# Altium schematic symbol library Power_Supervisor.SchLib: 91 symbols
Pins are listed as number, name and electrical type; pins without a type are passive.

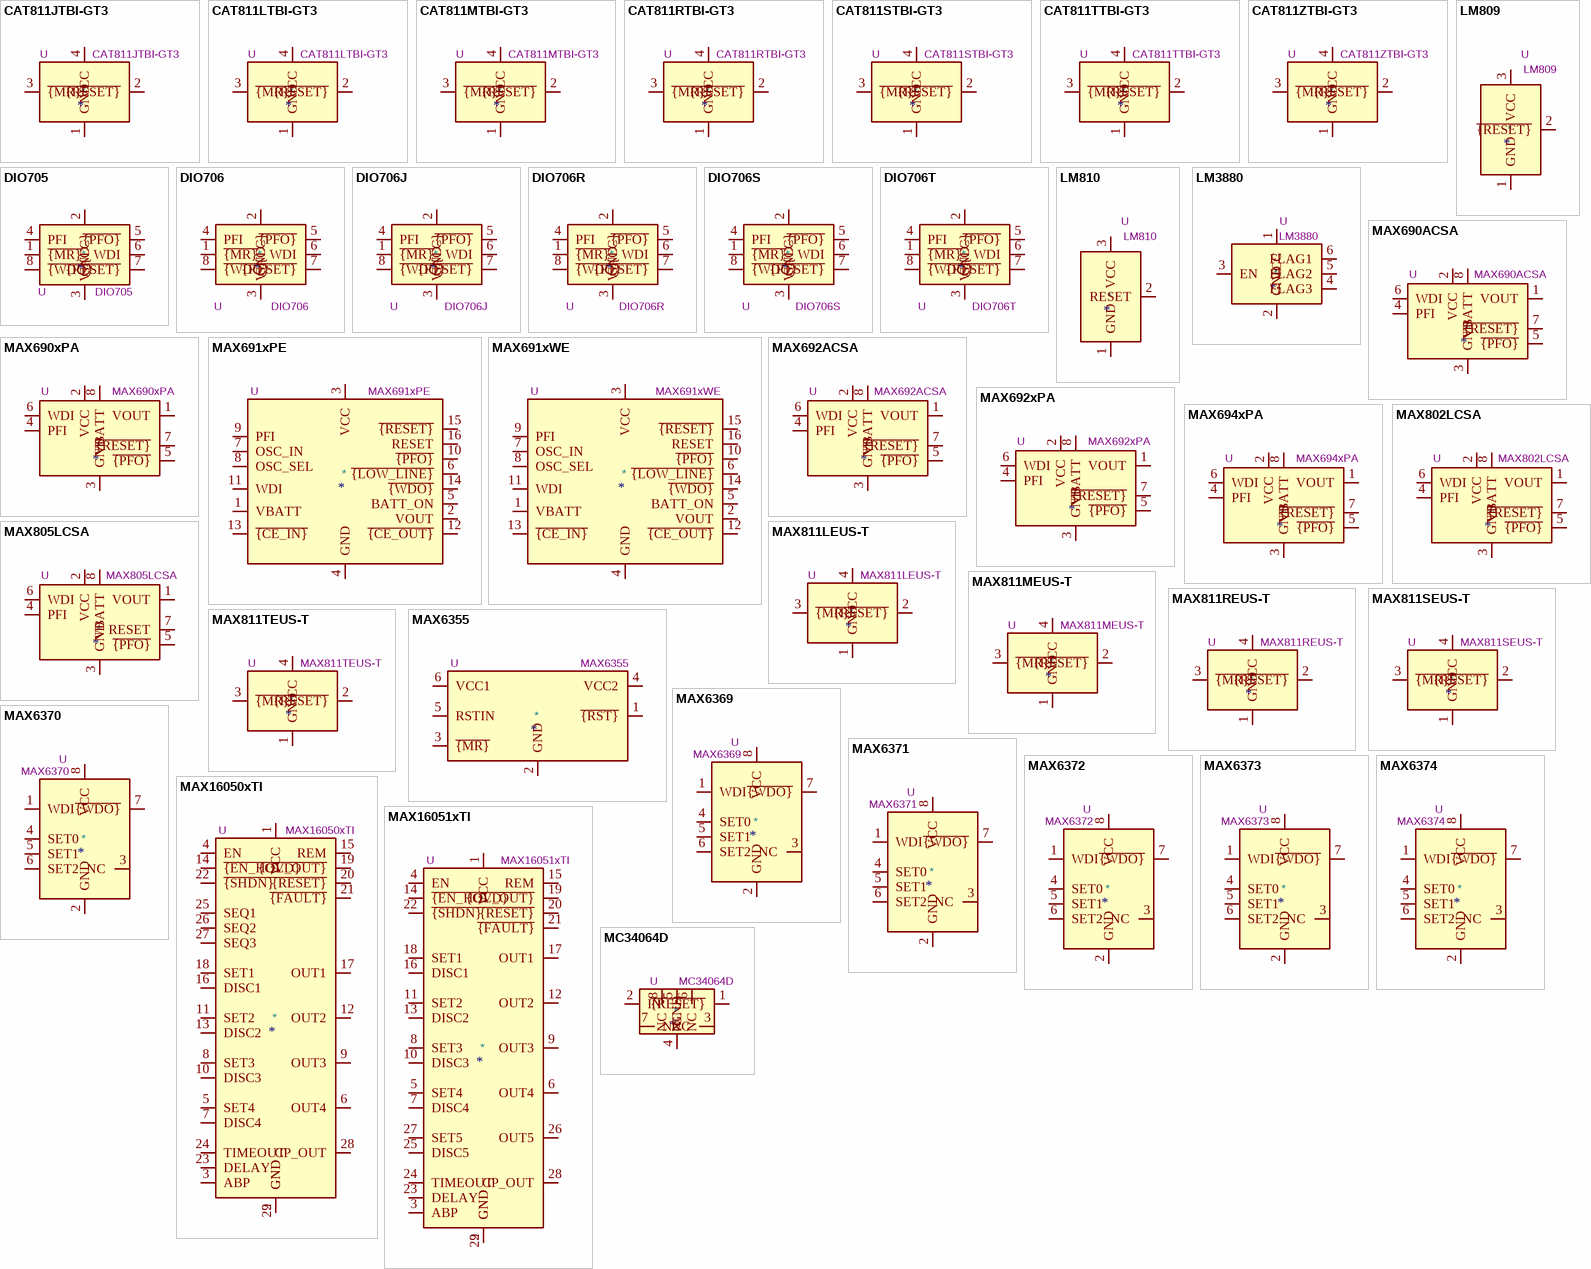
[diagram p0: symbols CAT811JTBI-GT3 to MC34064D]

## CAT811JTBI-GT3
designator *  value CAT811JTBI-GT3  Reference: U
Power supply supervisor, Manual reset, Threshold 4.00V, SOT-143; ki_keywords: Supervisor Reset; ki_fp_filters: SOT*143*; Footprint: Package_TO_SOT_SMD:SOT-143; Datasheet: http://www.onsemi.com/pub/Collateral/CAT811-D.PDF; Description_: Power supply supervisor, Manual reset, Threshold 4.00V, SOT-143
pins: 1 GND, 2 ~{{RESET}}, 3 ~{{MR}}, 4 VCC

## CAT811LTBI-GT3
designator *  value CAT811LTBI-GT3  Reference: U
Power supply supervisor, Manual reset, Threshold 4.63V, SOT-143; ki_keywords: Supervisor Reset; ki_fp_filters: SOT*143*; Footprint: Package_TO_SOT_SMD:SOT-143; Datasheet: http://www.onsemi.com/pub/Collateral/CAT811-D.PDF; Description_: Power supply supervisor, Manual reset, Threshold 4.63V, SOT-143
pins: 1 GND, 2 ~{{RESET}}, 3 ~{{MR}}, 4 VCC

## CAT811MTBI-GT3
designator *  value CAT811MTBI-GT3  Reference: U
Power supply supervisor, Manual reset, Threshold 4.38V, SOT-143; ki_keywords: Supervisor Reset; ki_fp_filters: SOT*143*; Footprint: Package_TO_SOT_SMD:SOT-143; Datasheet: http://www.onsemi.com/pub/Collateral/CAT811-D.PDF; Description_: Power supply supervisor, Manual reset, Threshold 4.38V, SOT-143
pins: 1 GND, 2 ~{{RESET}}, 3 ~{{MR}}, 4 VCC

## CAT811RTBI-GT3
designator *  value CAT811RTBI-GT3  Reference: U
Power supply supervisor, Manual reset, Threshold 2.63V, SOT-143; ki_keywords: Supervisor Reset; ki_fp_filters: SOT*143*; Footprint: Package_TO_SOT_SMD:SOT-143; Datasheet: http://www.onsemi.com/pub/Collateral/CAT811-D.PDF; Description_: Power supply supervisor, Manual reset, Threshold 2.63V, SOT-143
pins: 1 GND, 2 ~{{RESET}}, 3 ~{{MR}}, 4 VCC

## CAT811STBI-GT3
designator *  value CAT811STBI-GT3  Reference: U
Power supply supervisor, Manual reset, Threshold 2.93V, SOT-143; ki_keywords: Supervisor Reset; ki_fp_filters: SOT*143*; Footprint: Package_TO_SOT_SMD:SOT-143; Datasheet: http://www.onsemi.com/pub/Collateral/CAT811-D.PDF; Description_: Power supply supervisor, Manual reset, Threshold 2.93V, SOT-143
pins: 1 GND, 2 ~{{RESET}}, 3 ~{{MR}}, 4 VCC

## CAT811TTBI-GT3
designator *  value CAT811TTBI-GT3  Reference: U
Power supply supervisor, Manual reset, Threshold 3.08V, SOT-143; ki_keywords: Supervisor Reset; ki_fp_filters: SOT*143*; Footprint: Package_TO_SOT_SMD:SOT-143; Datasheet: http://www.onsemi.com/pub/Collateral/CAT811-D.PDF; Description_: Power supply supervisor, Manual reset, Threshold 3.08V, SOT-143
pins: 1 GND, 2 ~{{RESET}}, 3 ~{{MR}}, 4 VCC

## CAT811ZTBI-GT3
designator *  value CAT811ZTBI-GT3  Reference: U
Power supply supervisor, Manual reset, Threshold 2.32V, SOT-143; ki_keywords: Supervisor Reset; ki_fp_filters: SOT*143*; Footprint: Package_TO_SOT_SMD:SOT-143; Datasheet: http://www.onsemi.com/pub/Collateral/CAT811-D.PDF; Description_: Power supply supervisor, Manual reset, Threshold 2.32V, SOT-143
pins: 1 GND, 2 ~{{RESET}}, 3 ~{{MR}}, 4 VCC

## DIO705
designator *  value DIO705  Reference: U
Microprocessor Reset (active-low) circuit with manual reset and watchdog, 4.65Vnom threshold, SO-8; ki_keywords: supervisor wdg; ki_fp_filters: SO*3.9x4.9mm*P1.27mm*; Footprint: Package_SO:SOIC-8_3.9x4.9mm_P1.27mm; Datasheet: https://dioo.com/uploads/product/20210528/dae33bc3e6c4b6e07ca730d55ecc4c48.pdf; Description_: Microprocessor Reset (active-low) circuit with manual reset and watchdog, 4.65Vnom threshold, SO-8
pins: 1 ~{{MR}}, 2 V_{CC}, 3 GND, 4 PFI, 5 ~{{PFO}}, 6 WDI, 7 ~{{RESET}}, 8 ~{{WDO}}

## DIO706
designator *  value DIO706  Reference: U
Microprocessor Reset (active-low) circuit with manual reset and watchdog, 4.4Vnom threshold, SO-8; ki_keywords: supervisor wdg; ki_fp_filters: SO*3.9x4.9mm*P1.27mm*; Footprint: Package_SO:SOIC-8_3.9x4.9mm_P1.27mm; Datasheet: https://dioo.com/uploads/product/20210528/dae33bc3e6c4b6e07ca730d55ecc4c48.pdf; Description_: Microprocessor Reset (active-low) circuit with manual reset and watchdog, 4.4Vnom threshold, SO-8
pins: 1 ~{{MR}}, 2 V_{CC}, 3 GND, 4 PFI, 5 ~{{PFO}}, 6 WDI, 7 ~{{RESET}}, 8 ~{{WDO}}

## DIO706J
designator *  value DIO706J  Reference: U
Microprocessor Reset (active-low) circuit with manual reset and watchdog, 4.0Vnom threshold, SO-8; ki_keywords: supervisor wdg; ki_fp_filters: SO*3.9x4.9mm*P1.27mm*; Footprint: Package_SO:SOIC-8_3.9x4.9mm_P1.27mm; Datasheet: https://dioo.com/uploads/product/20210528/dae33bc3e6c4b6e07ca730d55ecc4c48.pdf; Description_: Microprocessor Reset (active-low) circuit with manual reset and watchdog, 4.0Vnom threshold, SO-8
pins: 1 ~{{MR}}, 2 V_{CC}, 3 GND, 4 PFI, 5 ~{{PFO}}, 6 WDI, 7 ~{{RESET}}, 8 ~{{WDO}}

## DIO706R
designator *  value DIO706R  Reference: U
Microprocessor Reset (active-low) circuit with manual reset and watchdog, 2.63Vnom threshold, SO-8; ki_keywords: supervisor wdg; ki_fp_filters: SO*3.9x4.9mm*P1.27mm*; Footprint: Package_SO:SOIC-8_3.9x4.9mm_P1.27mm; Datasheet: https://dioo.com/uploads/product/20210528/dae33bc3e6c4b6e07ca730d55ecc4c48.pdf; Description_: Microprocessor Reset (active-low) circuit with manual reset and watchdog, 2.63Vnom threshold, SO-8
pins: 1 ~{{MR}}, 2 V_{CC}, 3 GND, 4 PFI, 5 ~{{PFO}}, 6 WDI, 7 ~{{RESET}}, 8 ~{{WDO}}

## DIO706S
designator *  value DIO706S  Reference: U
Microprocessor Reset (active-low) circuit with manual reset and watchdog, 2.93Vnom threshold, SO-8; ki_keywords: supervisor wdg; ki_fp_filters: SO*3.9x4.9mm*P1.27mm*; Footprint: Package_SO:SOIC-8_3.9x4.9mm_P1.27mm; Datasheet: https://dioo.com/uploads/product/20210528/dae33bc3e6c4b6e07ca730d55ecc4c48.pdf; Description_: Microprocessor Reset (active-low) circuit with manual reset and watchdog, 2.93Vnom threshold, SO-8
pins: 1 ~{{MR}}, 2 V_{CC}, 3 GND, 4 PFI, 5 ~{{PFO}}, 6 WDI, 7 ~{{RESET}}, 8 ~{{WDO}}

## DIO706T
designator *  value DIO706T  Reference: U
Microprocessor Reset (active-low) circuit with manual reset and watchdog, 3.08Vnom threshold, SO-8; ki_keywords: supervisor wdg; ki_fp_filters: SO*3.9x4.9mm*P1.27mm*; Footprint: Package_SO:SOIC-8_3.9x4.9mm_P1.27mm; Datasheet: https://dioo.com/uploads/product/20210528/dae33bc3e6c4b6e07ca730d55ecc4c48.pdf; Description_: Microprocessor Reset (active-low) circuit with manual reset and watchdog, 3.08Vnom threshold, SO-8
pins: 1 ~{{MR}}, 2 V_{CC}, 3 GND, 4 PFI, 5 ~{{PFO}}, 6 WDI, 7 ~{{RESET}}, 8 ~{{WDO}}

## LM809
designator *  value LM809  Reference: U
Microprocessor Reset (active-low) Circuit, SOT-23; ki_keywords: reset supervisor; ki_fp_filters: SOT?23*; Footprint: Package_TO_SOT_SMD:SOT-23; Datasheet: http://www.ti.com/lit/ds/symlink/lm809.pdf; Description_: Microprocessor Reset (active-low) Circuit, SOT-23
pins: 1 GND, 2 ~{{RESET}}, 3 VCC

## LM810
designator *  value LM810  Reference: U
Microprocessor Reset (active-high) Circuit, SOT-23; ki_keywords: reset supervisor; ki_fp_filters: SOT?23*; Footprint: Package_TO_SOT_SMD:SOT-23; Datasheet: http://www.ti.com/lit/ds/symlink/lm809.pdf; Description_: Microprocessor Reset (active-high) Circuit, SOT-23
pins: 1 GND, 2 RESET, 3 VCC

## LM3880
designator *  value LM3880  Reference: U
Simple Power Sequencer, SOT-23-6; ki_fp_filters: SOT?23*; Footprint: Package_TO_SOT_SMD:SOT-23-6; Datasheet: http://www.ti.com/lit/ds/symlink/lm3880.pdf; Description_: Simple Power Sequencer, SOT-23-6; ki_keywords: Power Sequencer
pins: 1 VCC, 2 GND, 3 EN, 4 FLAG3, 5 FLAG2, 6 FLAG1

## MAX690ACSA
designator *  value MAX690ACSA  Reference: U
Microprocessor Supervisory Circuit, Battery-Backup Power Switching, Power-Fail Comparator, VCC / VBATT 1.0...5.5V, Reset Threshold 4.65V, Reset Pulse Width 200ms, Watchdog Timeout 1.60s, SOIC-8; ki_keywords: Supervisor wdg; ki_fp_filters: *SO*3.9*4.*P1.27mm*; Footprint: Package_SO:SOIC-8_3.9x4.9mm_P1.27mm; Datasheet: https://www.analog.com/media/en/technical-documentation/data-sheets/MAX690A-MAX805L.pdf; Description_: Microprocessor Supervisory Circuit, Battery-Backup Power Switching, Power-Fail Comparator, VCC / VBATT 1.0...5.5V, Reset Threshold 4.65V, Reset Pulse Width 200ms, Watchdog Timeout 1.60s, SOIC-8
pins: 1 VOUT, 2 VCC, 3 GND, 4 PFI, 5 ~{{PFO}}, 6 WDI, 7 ~{{RESET}}, 8 VBATT

## MAX690xPA
designator *  value MAX690xPA  Reference: U
Microprocessor Supervisory Circuit, Battery-Backup Power Switching, Power-Fail Comparator, VCC 4.75...5.5V, VBATT 2.0...4.25V, Reset Voltage Threshold 4.65V, Reset Timeout Delay 50ms, Watchdog Timeout 1.6s, DIP-8; ki_keywords: Supervisor wdg; ki_fp_filters: *DIP*W7.62mm*; Footprint: Package_DIP:DIP-8_W7.62mm; Datasheet: https://www.analog.com/media/en/technical-documentation/data-sheets/max690-max695.pdf; Description_: Microprocessor Supervisory Circuit, Battery-Backup Power Switching, Power-Fail Comparator, VCC 4.75...5.5V, VBATT 2.0...4.25V, Reset Voltage Threshold 4.65V, Reset Timeout Delay 50ms, Watchdog Timeout 1.6s, DIP-8
pins: 1 VOUT, 2 VCC, 3 GND, 4 PFI, 5 ~{{PFO}}, 6 WDI, 7 ~{{RESET}}, 8 VBATT

## MAX691xPE
designator *  value MAX691xPE  Reference: U
Microprocessor Supervisory Circuit, DIP-16; ki_keywords: Power Supervisor; ki_fp_filters: DIP*W7.62mm*; Footprint: Package_DIP:DIP-16_W7.62mm; Datasheet: https://datasheets.maximintegrated.com/en/ds/MAX690-MAX695.pdf; Description_: Microprocessor Supervisory Circuit, DIP-16
pins: 1 VBATT, 2 VOUT, 3 VCC, 4 GND, 5 BATT_ON, 6 ~{{LOW_LINE}}, 7 OSC_IN, 8 OSC_SEL, 9 PFI, 10 ~{{PFO}}, 11 WDI, 12 ~{{CE_OUT}}, 13 ~{{CE_IN}}, 14 ~{{WDO}}, 15 ~{{RESET}}, 16 RESET

## MAX691xWE
designator *  value MAX691xWE  Reference: U
Microprocessor Supervisory Circuit, SOIC-16; ki_keywords: Power Supervisor; ki_fp_filters: SOIC*7.5x10.3mm*P1.27mm*; Footprint: Package_SO:SOIC-16W_7.5x10.3mm_P1.27mm; Datasheet: https://datasheets.maximintegrated.com/en/ds/MAX690-MAX695.pdf; Description_: Microprocessor Supervisory Circuit, SOIC-16
pins: 1 VBATT, 2 VOUT, 3 VCC, 4 GND, 5 BATT_ON, 6 ~{{LOW_LINE}}, 7 OSC_IN, 8 OSC_SEL, 9 PFI, 10 ~{{PFO}}, 11 WDI, 12 ~{{CE_OUT}}, 13 ~{{CE_IN}}, 14 ~{{WDO}}, 15 ~{{RESET}}, 16 RESET

## MAX692ACSA
designator *  value MAX692ACSA  Reference: U
Microprocessor Supervisory Circuit, Battery-Backup Power Switching, Power-Fail Comparator, VCC / VBATT 1.0...5.5V, Reset Threshold 4.40V, Reset Pulse Width 200ms, Watchdog Timeout 1.60s, SOIC-8; ki_keywords: Supervisor wdg; ki_fp_filters: *SO*3.9*4.*P1.27mm*; Footprint: Package_SO:SOIC-8_3.9x4.9mm_P1.27mm; Datasheet: https://www.analog.com/media/en/technical-documentation/data-sheets/MAX690A-MAX805L.pdf; Description_: Microprocessor Supervisory Circuit, Battery-Backup Power Switching, Power-Fail Comparator, VCC / VBATT 1.0...5.5V, Reset Threshold 4.40V, Reset Pulse Width 200ms, Watchdog Timeout 1.60s, SOIC-8
pins: 1 VOUT, 2 VCC, 3 GND, 4 PFI, 5 ~{{PFO}}, 6 WDI, 7 ~{{RESET}}, 8 VBATT

## MAX692xPA
designator *  value MAX692xPA  Reference: U
Microprocessor Supervisory Circuit, Battery-Backup Power Switching, Power-Fail Comparator, VCC 4.5...5.5V, VBATT 2.0...4.0V, Reset Voltage Threshold 4.4V, Reset Timeout Delay 50ms, Watchdog Timeout 1.6s, DIP-8; ki_keywords: Supervisor wdg; ki_fp_filters: *DIP*W7.62mm*; Footprint: Package_DIP:DIP-8_W7.62mm; Datasheet: https://www.analog.com/media/en/technical-documentation/data-sheets/max690-max695.pdf; Description_: Microprocessor Supervisory Circuit, Battery-Backup Power Switching, Power-Fail Comparator, VCC 4.5...5.5V, VBATT 2.0...4.0V, Reset Voltage Threshold 4.4V, Reset Timeout Delay 50ms, Watchdog Timeout 1.6s, DIP-8
pins: 1 VOUT, 2 VCC, 3 GND, 4 PFI, 5 ~{{PFO}}, 6 WDI, 7 ~{{RESET}}, 8 VBATT

## MAX694xPA
designator *  value MAX694xPA  Reference: U
Microprocessor Supervisory Circuit, Battery-Backup Power Switching, Power-Fail Comparator, VCC 4.75...5.5V, VBATT 2.0...4.25V, Reset Voltage Threshold 4.65V, Reset Timeout Delay 200ms, Watchdog Timeout 1.6s, DIP-8; ki_keywords: Supervisor wdg; ki_fp_filters: *DIP*W7.62mm*; Footprint: Package_DIP:DIP-8_W7.62mm; Datasheet: https://www.analog.com/media/en/technical-documentation/data-sheets/max690-max695.pdf; Description_: Microprocessor Supervisory Circuit, Battery-Backup Power Switching, Power-Fail Comparator, VCC 4.75...5.5V, VBATT 2.0...4.25V, Reset Voltage Threshold 4.65V, Reset Timeout Delay 200ms, Watchdog Timeout 1.6s, DIP-8
pins: 1 VOUT, 2 VCC, 3 GND, 4 PFI, 5 ~{{PFO}}, 6 WDI, 7 ~{{RESET}}, 8 VBATT

## MAX802LCSA
designator *  value MAX802LCSA  Reference: U
Microprocessor Supervisory Circuit, Battery-Backup Power Switching, Power-Fail Comparator accuracy ±2%, VCC / VBATT 1.0...5.5V, Reset Threshold 4.65V, Reset Pulse Width 200ms, Watchdog Timeout 1.60s, SOIC-8; ki_keywords: Supervisor wdg; ki_fp_filters: *SO*3.9*4.*P1.27mm*; Footprint: Package_SO:SOIC-8_3.9x4.9mm_P1.27mm; Datasheet: https://www.analog.com/media/en/technical-documentation/data-sheets/MAX690A-MAX805L.pdf; Description_: Microprocessor Supervisory Circuit, Battery-Backup Power Switching, Power-Fail Comparator accuracy ±2%, VCC / VBATT 1.0...5.5V, Reset Threshold 4.65V, Reset Pulse Width 200ms, Watchdog Timeout 1.60s, SOIC-8
pins: 1 VOUT, 2 VCC, 3 GND, 4 PFI, 5 ~{{PFO}}, 6 WDI, 7 ~{{RESET}}, 8 VBATT

## MAX805LCSA
designator *  value MAX805LCSA  Reference: U
Microprocessor Supervisory Circuit, Battery-Backup Power Switching, Power-Fail Comparator, VCC / VBATT 1.1...5.5V, Reset Threshold 4.65V, Reset Pulse Width 200ms, Watchdog Timeout 1.60s, Reset active-high, SOIC-8; ki_keywords: Supervisor wdg; ki_fp_filters: *SO*3.9*4.*P1.27mm*; Footprint: Package_SO:SOIC-8_3.9x4.9mm_P1.27mm; Datasheet: https://www.analog.com/media/en/technical-documentation/data-sheets/MAX690A-MAX805L.pdf; Description_: Microprocessor Supervisory Circuit, Battery-Backup Power Switching, Power-Fail Comparator, VCC / VBATT 1.1...5.5V, Reset Threshold 4.65V, Reset Pulse Width 200ms, Watchdog Timeout 1.60s, Reset active-high, SOIC-8
pins: 1 VOUT, 2 VCC, 3 GND, 4 PFI, 5 ~{{PFO}}, 6 WDI, 7 RESET, 8 VBATT

## MAX811LEUS-T
designator *  value MAX811LEUS-T  Reference: U
Power supply supervisor, Manual reset, Threshold 4.63V, SOT-143; ki_keywords: Supervisor Reset; ki_fp_filters: SOT*143*; Footprint: Package_TO_SOT_SMD:SOT-143; Datasheet: https://datasheets.maximintegrated.com/en/ds/MAX811-MAX812.pdf; Description_: Power supply supervisor, Manual reset, Threshold 4.63V, SOT-143
pins: 1 GND, 2 ~{{RESET}}, 3 ~{{MR}}, 4 VCC

## MAX811MEUS-T
designator *  value MAX811MEUS-T  Reference: U
Power supply supervisor, Manual reset, Threshold 4.38V, SOT-143; ki_keywords: Supervisor Reset; ki_fp_filters: SOT*143*; Footprint: Package_TO_SOT_SMD:SOT-143; Datasheet: https://datasheets.maximintegrated.com/en/ds/MAX811-MAX812.pdf; Description_: Power supply supervisor, Manual reset, Threshold 4.38V, SOT-143
pins: 1 GND, 2 ~{{RESET}}, 3 ~{{MR}}, 4 VCC

## MAX811REUS-T
designator *  value MAX811REUS-T  Reference: U
Power supply supervisor, Manual reset, Threshold 2.63V, SOT-143; ki_keywords: Supervisor Reset; ki_fp_filters: SOT*143*; Footprint: Package_TO_SOT_SMD:SOT-143; Datasheet: https://datasheets.maximintegrated.com/en/ds/MAX811-MAX812.pdf; Description_: Power supply supervisor, Manual reset, Threshold 2.63V, SOT-143
pins: 1 GND, 2 ~{{RESET}}, 3 ~{{MR}}, 4 VCC

## MAX811SEUS-T
designator *  value MAX811SEUS-T  Reference: U
Power supply supervisor, Manual reset, Threshold 2.93V, SOT-143; ki_keywords: Supervisor Reset; ki_fp_filters: SOT*143*; Footprint: Package_TO_SOT_SMD:SOT-143; Datasheet: https://datasheets.maximintegrated.com/en/ds/MAX811-MAX812.pdf; Description_: Power supply supervisor, Manual reset, Threshold 2.93V, SOT-143
pins: 1 GND, 2 ~{{RESET}}, 3 ~{{MR}}, 4 VCC

## MAX811TEUS-T
designator *  value MAX811TEUS-T  Reference: U
Power supply supervisor, Manual reset, Threshold 3.08V, SOT-143; ki_keywords: Supervisor Reset; ki_fp_filters: SOT*143*; Footprint: Package_TO_SOT_SMD:SOT-143; Datasheet: https://datasheets.maximintegrated.com/en/ds/MAX811-MAX812.pdf; Description_: Power supply supervisor, Manual reset, Threshold 3.08V, SOT-143
pins: 1 GND, 2 ~{{RESET}}, 3 ~{{MR}}, 4 VCC

## MAX6355
designator *  value MAX6355  Reference: U
Dual Voltage μP Supervisory Circuits, SOT-23-6; ki_keywords: Power Supervisor; ki_fp_filters: SOT?23*; Footprint: Package_TO_SOT_SMD:SOT-23-6; Datasheet: https://datasheets.maximintegrated.com/en/ds/MAX6351-MAX6360.pdf; Description_: Dual Voltage μP Supervisory Circuits, SOT-23-6
pins: 1 ~{{RST}}, 2 GND, 3 ~{{MR}}, 4 VCC2, 5 RSTIN, 6 VCC1

## MAX6369
designator *  value MAX6369  Reference: U
Precision Pin-Selectable Watchdog Timer, 200us to 60s, SOT-23-8; ki_keywords: watchdog supervisor; ki_fp_filters: SOT?23*; Footprint: Package_TO_SOT_SMD:SOT-23-8; Datasheet: https://datasheets.maximintegrated.com/en/ds/MAX6369-MAX6374.pdf; Description_: Precision Pin-Selectable Watchdog Timer, 200us to 60s, SOT-23-8
pins: 1 WDI, 2 GND, 3 NC, 4 SET0, 5 SET1, 6 SET2, 7 ~{{WDO}}, 8 VCC

## MAX6370
designator *  value MAX6370  Reference: U
Precision Pin-Selectable Watchdog Timer, 200us to 60s, SOT-23-8; ki_keywords: watchdog supervisor; ki_fp_filters: SOT?23*; Footprint: Package_TO_SOT_SMD:SOT-23-8; Datasheet: https://datasheets.maximintegrated.com/en/ds/MAX6369-MAX6374.pdf; Description_: Precision Pin-Selectable Watchdog Timer, 200us to 60s, SOT-23-8
pins: 1 WDI, 2 GND, 3 NC, 4 SET0, 5 SET1, 6 SET2, 7 ~{{WDO}}, 8 VCC

## MAX6371
designator *  value MAX6371  Reference: U
Precision Pin-Selectable Watchdog Timer, 200us to 60s, SOT-23-8; ki_keywords: watchdog supervisor; ki_fp_filters: SOT?23*; Footprint: Package_TO_SOT_SMD:SOT-23-8; Datasheet: https://datasheets.maximintegrated.com/en/ds/MAX6369-MAX6374.pdf; Description_: Precision Pin-Selectable Watchdog Timer, 200us to 60s, SOT-23-8
pins: 1 WDI, 2 GND, 3 NC, 4 SET0, 5 SET1, 6 SET2, 7 ~{{WDO}}, 8 VCC

## MAX6372
designator *  value MAX6372  Reference: U
Precision Pin-Selectable Watchdog Timer, 200us to 60s, SOT-23-8; ki_keywords: watchdog supervisor; ki_fp_filters: SOT?23*; Footprint: Package_TO_SOT_SMD:SOT-23-8; Datasheet: https://datasheets.maximintegrated.com/en/ds/MAX6369-MAX6374.pdf; Description_: Precision Pin-Selectable Watchdog Timer, 200us to 60s, SOT-23-8
pins: 1 WDI, 2 GND, 3 NC, 4 SET0, 5 SET1, 6 SET2, 7 ~{{WDO}}, 8 VCC

## MAX6373
designator *  value MAX6373  Reference: U
Precision Pin-Selectable Watchdog Timer, 200us to 60s, SOT-23-8; ki_keywords: watchdog supervisor; ki_fp_filters: SOT?23*; Footprint: Package_TO_SOT_SMD:SOT-23-8; Datasheet: https://datasheets.maximintegrated.com/en/ds/MAX6369-MAX6374.pdf; Description_: Precision Pin-Selectable Watchdog Timer, 200us to 60s, SOT-23-8
pins: 1 WDI, 2 GND, 3 NC, 4 SET0, 5 SET1, 6 SET2, 7 ~{{WDO}}, 8 VCC

## MAX6374
designator *  value MAX6374  Reference: U
Precision Pin-Selectable Watchdog Timer, 200us to 60s, SOT-23-8; ki_keywords: watchdog supervisor; ki_fp_filters: SOT?23*; Footprint: Package_TO_SOT_SMD:SOT-23-8; Datasheet: https://datasheets.maximintegrated.com/en/ds/MAX6369-MAX6374.pdf; Description_: Precision Pin-Selectable Watchdog Timer, 200us to 60s, SOT-23-8
pins: 1 WDI, 2 GND, 3 NC, 4 SET0, 5 SET1, 6 SET2, 7 ~{{WDO}}, 8 VCC

## MAX16050xTI
designator *  value MAX16050xTI  Reference: U
5 Voltage Monitor/Sequencer with Reverse-Sequencing Capability, WQFN-28; ki_keywords: power sequencing; ki_fp_filters: *QFN*4x4mm*P0.4mm*EP2.7x2.7*; Footprint: Package_DFN_QFN:WQFN-28-1EP_4x4mm_P0.4mm_EP2.7x2.7mm; Datasheet: https://datasheets.maximintegrated.com/en/ds/MAX16050-MAX16051.pdf; Description_: 5 Voltage Monitor/Sequencer with Reverse-Sequencing Capability, WQFN-28
pins: 1 VCC, 2 GND, 3 ABP, 4 EN, 5 SET4, 6 OUT4, 7 DISC4, 8 SET3, 9 OUT3, 10 DISC3, 11 SET2, 12 OUT2, 13 DISC2, 14 ~{{EN_HOLD}}, 15 REM, 16 DISC1, 17 OUT1, 18 SET1, 19 ~{{OV_OUT}}, 20 ~{{RESET}}, 21 ~{{FAULT}}, 22 ~{{SHDN}}, 23 DELAY, 24 TIMEOUT, 25 SEQ1, 26 SEQ2, 27 SEQ3, 28 CP_OUT, 29 GND

## MAX16051xTI
designator *  value MAX16051xTI  Reference: U
6 Voltage Monitor/Sequencer with Reverse-Sequencing Capability, WQFN-28; ki_keywords: power sequencing; ki_fp_filters: *QFN*4x4mm*P0.4mm*EP2.7x2.7*; Footprint: Package_DFN_QFN:WQFN-28-1EP_4x4mm_P0.4mm_EP2.7x2.7mm; Datasheet: https://datasheets.maximintegrated.com/en/ds/MAX16050-MAX16051.pdf; Description_: 6 Voltage Monitor/Sequencer with Reverse-Sequencing Capability, WQFN-28
pins: 1 VCC, 2 GND, 3 ABP, 4 EN, 5 SET4, 6 OUT4, 7 DISC4, 8 SET3, 9 OUT3, 10 DISC3, 11 SET2, 12 OUT2, 13 DISC2, 14 ~{{EN_HOLD}}, 15 REM, 16 DISC1, 17 OUT1, 18 SET1, 19 ~{{OV_OUT}}, 20 ~{{RESET}}, 21 ~{{FAULT}}, 22 ~{{SHDN}}, 23 DELAY, 24 TIMEOUT, 25 DISC5, 26 OUT5, 27 SET5, 28 CP_OUT, 29 GND

## MC34064D
designator *  value MC34064D  Reference: U
Undervoltage Sensing Circuit, SOIC-8; ki_keywords: Power Supervisor; ki_fp_filters: SOIC*3.9x4.9mm*P1.27mm*; Footprint: Package_SO:SOIC-8_3.9x4.9mm_P1.27mm; Datasheet: https://www.onsemi.com/pub/Collateral/MC34064-D.PDF; Description_: Undervoltage Sensing Circuit, SOIC-8
pins: 1 ~{{RESET}}, 2 IN, 3 NC, 4 GND, 5 NC, 6 NC, 7 NC, 8 NC

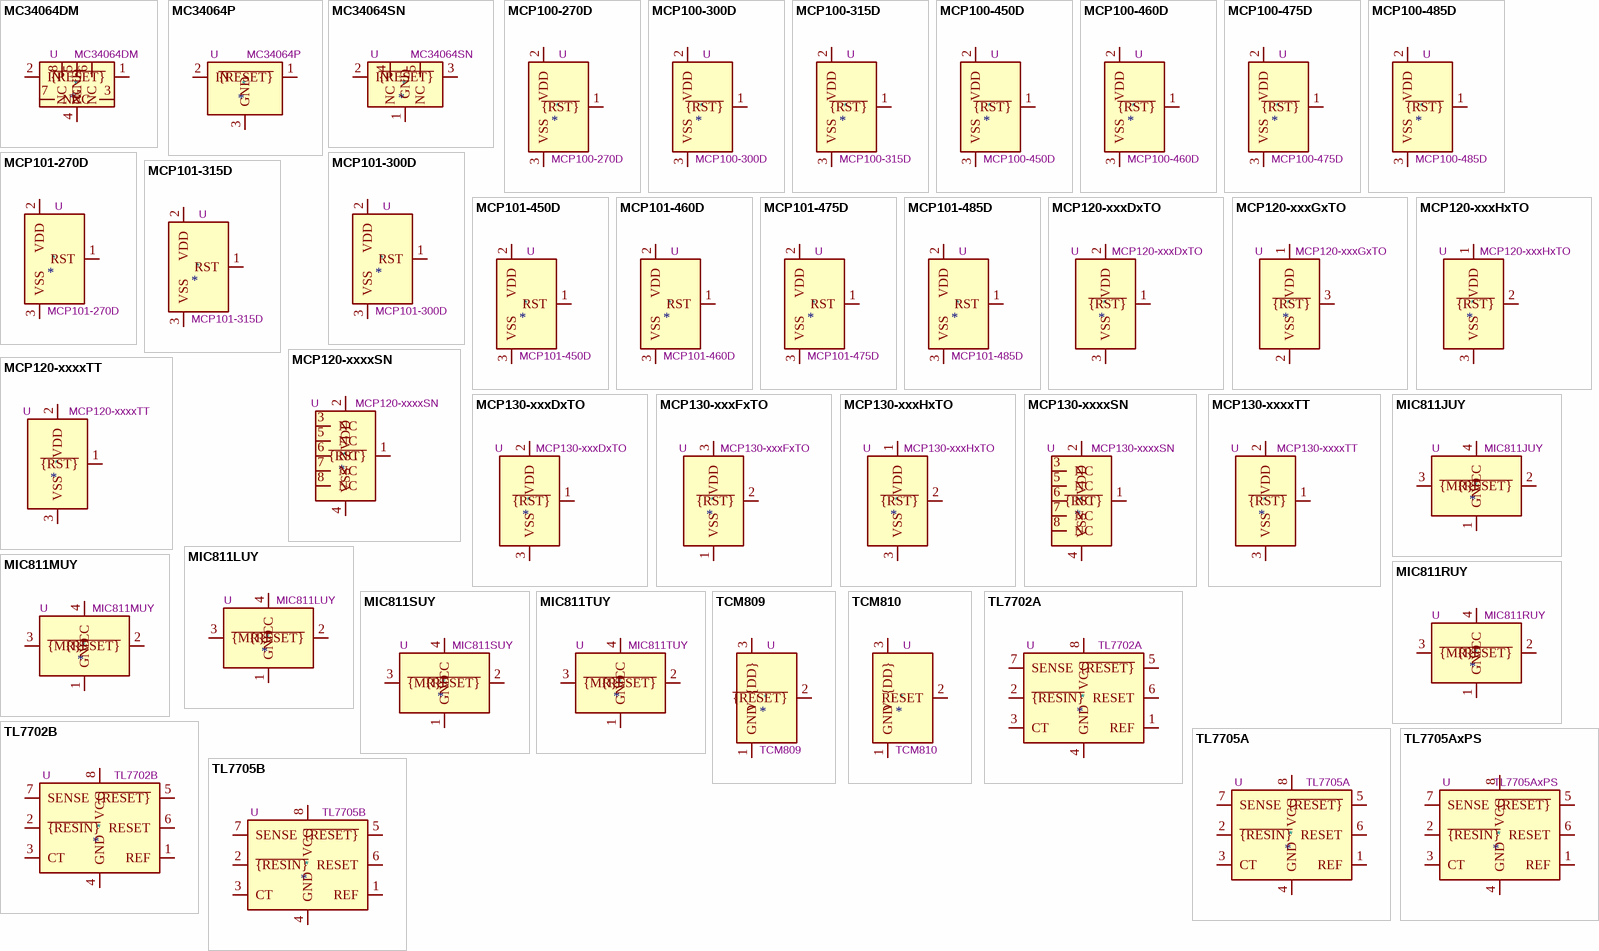
[diagram p1: symbols MC34064DM to TL7705B]

## MC34064DM
designator *  value MC34064DM  Reference: U
Undervoltage Sensing Circuit, MSOP-8; ki_keywords: Power Supervisor; ki_fp_filters: MSOP*3x3mm*P0.65mm*; Footprint: Package_SO:MSOP-8_3x3mm_P0.65mm; Datasheet: https://www.onsemi.com/pub/Collateral/MC34064-D.PDF; Description_: Undervoltage Sensing Circuit, MSOP-8
pins: 1 ~{{RESET}}, 2 IN, 3 NC, 4 GND, 5 NC, 6 NC, 7 NC, 8 NC

## MC34064P
designator *  value MC34064P  Reference: U
Undervoltage Sensing Circuit, TO-92; ki_keywords: Power Supervisor; ki_fp_filters: TO?92L?Inline*; Footprint: Package_TO_SOT_THT:TO-92L_Inline; Datasheet: https://www.onsemi.com/pub/Collateral/MC34064-D.PDF; Description_: Undervoltage Sensing Circuit, TO-92
pins: 1 ~{{RESET}}, 2 IN, 3 GND

## MC34064SN
designator *  value MC34064SN  Reference: U
Undervoltage Sensing Circuit, TSOP-5; ki_keywords: Power Supervisor; ki_fp_filters: TSOP*1.65x3.05mm*P0.95mm*; Footprint: Package_SO:TSOP-5_1.65x3.05mm_P0.95mm; Datasheet: https://www.onsemi.com/pub/Collateral/MC34064-D.PDF; Description_: Undervoltage Sensing Circuit, TSOP-5
pins: 1 GND, 2 IN, 3 ~{{RESET}}, 4 NC, 5 NC

## MCP100-270D
designator *  value MCP100-270D  Reference: U
Microcontroller reset monitor, 2.70V threshold, active low output; ki_keywords: supervisor reset push-pull; ki_fp_filters: SOT?23* TO?92*; Datasheet: http://ww1.microchip.com/downloads/en/DeviceDoc/11187f.pdf; Description_: Microcontroller reset monitor, 2.70V threshold, active low output
pins: 1 ~{{RST}}, 2 VDD, 3 VSS

## MCP100-300D
designator *  value MCP100-300D  Reference: U
Microcontroller reset monitor, 3.00V threshold, active low output; ki_keywords: supervisor reset push-pull; ki_fp_filters: SOT?23* TO?92*; Datasheet: http://ww1.microchip.com/downloads/en/DeviceDoc/11187f.pdf; Description_: Microcontroller reset monitor, 3.00V threshold, active low output
pins: 1 ~{{RST}}, 2 VDD, 3 VSS

## MCP100-315D
designator *  value MCP100-315D  Reference: U
Microcontroller reset monitor, 3.15V threshold, active low output; ki_keywords: supervisor reset push-pull; ki_fp_filters: SOT?23* TO?92*; Datasheet: http://ww1.microchip.com/downloads/en/DeviceDoc/11187f.pdf; Description_: Microcontroller reset monitor, 3.15V threshold, active low output
pins: 1 ~{{RST}}, 2 VDD, 3 VSS

## MCP100-450D
designator *  value MCP100-450D  Reference: U
Microcontroller reset monitor, 4.50V threshold, active low output; ki_keywords: supervisor reset push-pull; ki_fp_filters: SOT?23* TO?92*; Datasheet: http://ww1.microchip.com/downloads/en/DeviceDoc/11187f.pdf; Description_: Microcontroller reset monitor, 4.50V threshold, active low output
pins: 1 ~{{RST}}, 2 VDD, 3 VSS

## MCP100-460D
designator *  value MCP100-460D  Reference: U
Microcontroller reset monitor, 4.60V threshold, active low output; ki_keywords: supervisor reset push-pull; ki_fp_filters: SOT?23* TO?92*; Datasheet: http://ww1.microchip.com/downloads/en/DeviceDoc/11187f.pdf; Description_: Microcontroller reset monitor, 4.60V threshold, active low output
pins: 1 ~{{RST}}, 2 VDD, 3 VSS

## MCP100-475D
designator *  value MCP100-475D  Reference: U
Microcontroller reset monitor, 4.75V threshold, active low output; ki_keywords: supervisor reset push-pull; ki_fp_filters: SOT?23* TO?92*; Datasheet: http://ww1.microchip.com/downloads/en/DeviceDoc/11187f.pdf; Description_: Microcontroller reset monitor, 4.75V threshold, active low output
pins: 1 ~{{RST}}, 2 VDD, 3 VSS

## MCP100-485D
designator *  value MCP100-485D  Reference: U
Microcontroller reset monitor, 4.85V threshold, active low output; ki_keywords: supervisor reset push-pull; ki_fp_filters: SOT?23* TO?92*; Datasheet: http://ww1.microchip.com/downloads/en/DeviceDoc/11187f.pdf; Description_: Microcontroller reset monitor, 4.85V threshold, active low output
pins: 1 ~{{RST}}, 2 VDD, 3 VSS

## MCP101-270D
designator *  value MCP101-270D  Reference: U
Microcontroller reset monitor, 2.70V threshold, active high output; ki_keywords: supervisor reset push-pull; ki_fp_filters: SOT?23* TO?92*; Datasheet: http://ww1.microchip.com/downloads/en/DeviceDoc/11187f.pdf; Description_: Microcontroller reset monitor, 2.70V threshold, active high output
pins: 1 RST, 2 VDD, 3 VSS

## MCP101-300D
designator *  value MCP101-300D  Reference: U
Microcontroller reset monitor, 3.00V threshold, active high output; ki_keywords: supervisor reset push-pull; ki_fp_filters: SOT?23* TO?92*; Datasheet: http://ww1.microchip.com/downloads/en/DeviceDoc/11187f.pdf; Description_: Microcontroller reset monitor, 3.00V threshold, active high output
pins: 1 RST, 2 VDD, 3 VSS

## MCP101-315D
designator *  value MCP101-315D  Reference: U
Microcontroller reset monitor, 3.15V threshold, active high output; ki_keywords: supervisor reset push-pull; ki_fp_filters: SOT?23* TO?92*; Datasheet: http://ww1.microchip.com/downloads/en/DeviceDoc/11187f.pdf; Description_: Microcontroller reset monitor, 3.15V threshold, active high output
pins: 1 RST, 2 VDD, 3 VSS

## MCP101-450D
designator *  value MCP101-450D  Reference: U
Microcontroller reset monitor, 4.50V threshold, active high output; ki_keywords: supervisor reset push-pull; ki_fp_filters: SOT?23* TO?92*; Datasheet: http://ww1.microchip.com/downloads/en/DeviceDoc/11187f.pdf; Description_: Microcontroller reset monitor, 4.50V threshold, active high output
pins: 1 RST, 2 VDD, 3 VSS

## MCP101-460D
designator *  value MCP101-460D  Reference: U
Microcontroller reset monitor, 4.60V threshold, active high output; ki_keywords: supervisor reset push-pull; ki_fp_filters: SOT?23* TO?92*; Datasheet: http://ww1.microchip.com/downloads/en/DeviceDoc/11187f.pdf; Description_: Microcontroller reset monitor, 4.60V threshold, active high output
pins: 1 RST, 2 VDD, 3 VSS

## MCP101-475D
designator *  value MCP101-475D  Reference: U
Microcontroller reset monitor, 4.75V threshold, active high output; ki_keywords: supervisor reset push-pull; ki_fp_filters: SOT?23* TO?92*; Datasheet: http://ww1.microchip.com/downloads/en/DeviceDoc/11187f.pdf; Description_: Microcontroller reset monitor, 4.75V threshold, active high output
pins: 1 RST, 2 VDD, 3 VSS

## MCP101-485D
designator *  value MCP101-485D  Reference: U
Microcontroller reset monitor, 4.85V threshold, active high output; ki_keywords: supervisor reset push-pull; ki_fp_filters: SOT?23* TO?92*; Datasheet: http://ww1.microchip.com/downloads/en/DeviceDoc/11187f.pdf; Description_: Microcontroller reset monitor, 4.85V threshold, active high output
pins: 1 RST, 2 VDD, 3 VSS

## MCP120-xxxDxTO
designator *  value MCP120-xxxDxTO  Reference: U
Microcontroller supervisory circuit, TO-92; ki_fp_filters: TO*92*Inline*; Footprint: Package_TO_SOT_THT:TO-92_Inline; Datasheet: http://ww1.microchip.com/downloads/en/DeviceDoc/11184d.pdf; Description_: Microcontroller supervisory circuit, TO-92; ki_keywords: supervisory circuit
pins: 1 ~{{RST}}, 2 VDD, 3 VSS

## MCP120-xxxGxTO
designator *  value MCP120-xxxGxTO  Reference: U
Microcontroller supervisory circuit, TO-92; ki_fp_filters: TO*92*Inline*; Footprint: Package_TO_SOT_THT:TO-92_Inline; Datasheet: http://ww1.microchip.com/downloads/en/DeviceDoc/11184d.pdf; Description_: Microcontroller supervisory circuit, TO-92; ki_keywords: supervisory circuit
pins: 1 VDD, 2 VSS, 3 ~{{RST}}

## MCP120-xxxHxTO
designator *  value MCP120-xxxHxTO  Reference: U
Microcontroller supervisory circuit, TO-92; ki_fp_filters: TO*92*Inline*; Footprint: Package_TO_SOT_THT:TO-92_Inline; Datasheet: http://ww1.microchip.com/downloads/en/DeviceDoc/11184d.pdf; Description_: Microcontroller supervisory circuit, TO-92; ki_keywords: supervisory circuit
pins: 1 VDD, 2 ~{{RST}}, 3 VSS

## MCP120-xxxxSN
designator *  value MCP120-xxxxSN  Reference: U
Microcontroller supervisory circuit, SOIC-8; ki_fp_filters: SOIC*3.9x4.9mm*P1.27mm*; Footprint: Package_SO:SOIC-8_3.9x4.9mm_P1.27mm; Datasheet: http://ww1.microchip.com/downloads/en/DeviceDoc/11184d.pdf; Description_: Microcontroller supervisory circuit, SOIC-8; ki_keywords: supervisory circuit
pins: 1 ~{{RST}}, 2 VDD, 3 NC, 4 VSS, 5 NC, 6 NC, 7 NC, 8 NC

## MCP120-xxxxTT
designator *  value MCP120-xxxxTT  Reference: U
Microcontroller supervisory circuit, SOT-23; ki_fp_filters: SOT?23*; Footprint: Package_TO_SOT_SMD:SOT-23; Datasheet: http://ww1.microchip.com/downloads/en/DeviceDoc/11184d.pdf; Description_: Microcontroller supervisory circuit, SOT-23; ki_keywords: supervisory circuit
pins: 1 ~{{RST}}, 2 VDD, 3 VSS

## MCP130-xxxDxTO
designator *  value MCP130-xxxDxTO  Reference: U
Microcontroller supervisory circuit with internal 5 kΩ pull-up, TO-92; ki_keywords: supervisory circuit pull-up; ki_fp_filters: TO*92*Inline*; Footprint: Package_TO_SOT_THT:TO-92_Inline; Datasheet: http://ww1.microchip.com/downloads/en/DeviceDoc/11184d.pdf; Description_: Microcontroller supervisory circuit with internal 5 kΩ pull-up, TO-92
pins: 1 ~{{RST}}, 2 VDD, 3 VSS

## MCP130-xxxFxTO
designator *  value MCP130-xxxFxTO  Reference: U
Microcontroller supervisory circuit with internal 5 kΩ pull-up, TO-92; ki_keywords: supervisory circuit pull-up; ki_fp_filters: TO*92*Inline*; Footprint: Package_TO_SOT_THT:TO-92_Inline; Datasheet: http://ww1.microchip.com/downloads/en/DeviceDoc/11184d.pdf; Description_: Microcontroller supervisory circuit with internal 5 kΩ pull-up, TO-92
pins: 1 VSS, 2 ~{{RST}}, 3 VDD

## MCP130-xxxHxTO
designator *  value MCP130-xxxHxTO  Reference: U
Microcontroller supervisory circuit with internal 5 kΩ pull-up, TO-92; ki_keywords: supervisory circuit pull-up; ki_fp_filters: TO*92*Inline*; Footprint: Package_TO_SOT_THT:TO-92_Inline; Datasheet: http://ww1.microchip.com/downloads/en/DeviceDoc/11184d.pdf; Description_: Microcontroller supervisory circuit with internal 5 kΩ pull-up, TO-92
pins: 1 VDD, 2 ~{{RST}}, 3 VSS

## MCP130-xxxxSN
designator *  value MCP130-xxxxSN  Reference: U
Microcontroller supervisory circuit with internal 5 kΩ pull-up, SOIC-8; ki_keywords: supervisory circuit pull-up; ki_fp_filters: SOIC*3.9x4.9mm*P1.27mm*; Footprint: Package_SO:SOIC-8_3.9x4.9mm_P1.27mm; Datasheet: http://ww1.microchip.com/downloads/en/DeviceDoc/11184d.pdf; Description_: Microcontroller supervisory circuit with internal 5 kΩ pull-up, SOIC-8
pins: 1 ~{{RST}}, 2 VDD, 3 NC, 4 VSS, 5 NC, 6 NC, 7 NC, 8 NC

## MCP130-xxxxTT
designator *  value MCP130-xxxxTT  Reference: U
Microcontroller supervisory circuit with internal 5 kΩ pull-up, SOT-23; ki_keywords: supervisory circuit pull-up; ki_fp_filters: SOT?23*; Footprint: Package_TO_SOT_SMD:SOT-23; Datasheet: http://ww1.microchip.com/downloads/en/DeviceDoc/11184d.pdf; Description_: Microcontroller supervisory circuit with internal 5 kΩ pull-up, SOT-23
pins: 1 ~{{RST}}, 2 VDD, 3 VSS

## MIC811JUY
designator *  value MIC811JUY  Reference: U
Power supply supervisor, Manual reset, Threshold 4.00V, SOT-143; ki_keywords: Supervisor Reset; ki_fp_filters: SOT*143*; Footprint: Package_TO_SOT_SMD:SOT-143; Datasheet: http://ww1.microchip.com/downloads/en/DeviceDoc/mic811.pdf; Description_: Power supply supervisor, Manual reset, Threshold 4.00V, SOT-143
pins: 1 GND, 2 ~{{RESET}}, 3 ~{{MR}}, 4 VCC

## MIC811LUY
designator *  value MIC811LUY  Reference: U
Power supply supervisor, Manual reset, Threshold 4.63V, SOT-143; ki_keywords: Supervisor Reset; ki_fp_filters: SOT*143*; Footprint: Package_TO_SOT_SMD:SOT-143; Datasheet: http://ww1.microchip.com/downloads/en/DeviceDoc/mic811.pdf; Description_: Power supply supervisor, Manual reset, Threshold 4.63V, SOT-143
pins: 1 GND, 2 ~{{RESET}}, 3 ~{{MR}}, 4 VCC

## MIC811MUY
designator *  value MIC811MUY  Reference: U
Power supply supervisor, Manual reset, Threshold 4.38V, SOT-143; ki_keywords: Supervisor Reset; ki_fp_filters: SOT*143*; Footprint: Package_TO_SOT_SMD:SOT-143; Datasheet: http://ww1.microchip.com/downloads/en/DeviceDoc/mic811.pdf; Description_: Power supply supervisor, Manual reset, Threshold 4.38V, SOT-143
pins: 1 GND, 2 ~{{RESET}}, 3 ~{{MR}}, 4 VCC

## MIC811RUY
designator *  value MIC811RUY  Reference: U
Power supply supervisor, Manual reset, Threshold 2.63V, SOT-143; ki_keywords: Supervisor Reset; ki_fp_filters: SOT*143*; Footprint: Package_TO_SOT_SMD:SOT-143; Datasheet: http://ww1.microchip.com/downloads/en/DeviceDoc/mic811.pdf; Description_: Power supply supervisor, Manual reset, Threshold 2.63V, SOT-143
pins: 1 GND, 2 ~{{RESET}}, 3 ~{{MR}}, 4 VCC

## MIC811SUY
designator *  value MIC811SUY  Reference: U
Power supply supervisor, Manual reset, Threshold 2.93V, SOT-143; ki_keywords: Supervisor Reset; ki_fp_filters: SOT*143*; Footprint: Package_TO_SOT_SMD:SOT-143; Datasheet: http://ww1.microchip.com/downloads/en/DeviceDoc/mic811.pdf; Description_: Power supply supervisor, Manual reset, Threshold 2.93V, SOT-143
pins: 1 GND, 2 ~{{RESET}}, 3 ~{{MR}}, 4 VCC

## MIC811TUY
designator *  value MIC811TUY  Reference: U
Power supply supervisor, Manual reset, Threshold 3.08V, SOT-143; ki_keywords: Supervisor Reset; ki_fp_filters: SOT*143*; Footprint: Package_TO_SOT_SMD:SOT-143; Datasheet: http://ww1.microchip.com/downloads/en/DeviceDoc/mic811.pdf; Description_: Power supply supervisor, Manual reset, Threshold 3.08V, SOT-143
pins: 1 GND, 2 ~{{RESET}}, 3 ~{{MR}}, 4 VCC

## TCM809
designator *  value TCM809  Reference: U
Microcontroller reset monitor, active low output; ki_keywords: supervisor reset push-pull; ki_fp_filters: SOT?23* *SC?70*; Datasheet: http://ww1.microchip.com/downloads/en/DeviceDoc/21661E.pdf; Description_: Microcontroller reset monitor, active low output
pins: 1 GND, 2 ~{{RESET}}, 3 V_{DD}

## TCM810
designator *  value TCM810  Reference: U
Microcontroller reset monitor, active high output; ki_keywords: supervisor reset push-pull; ki_fp_filters: SOT?23* *SC?70*; Datasheet: http://ww1.microchip.com/downloads/en/DeviceDoc/21661E.pdf; Description_: Microcontroller reset monitor, active high output
pins: 1 GND, 2 RESET, 3 V_{DD}

## TL7702A
designator *  value TL7702A  Reference: U
Supply-Voltage Supervisors, 2.53V, PDIP-8/SOIC-8; ki_fp_filters: SOIC*3.9x4.9mm*P1.27mm* DIP*W7.62mm*; Datasheet: http://www.ti.com.cn/cn/lit/ds/symlink/tl7705a.pdf; Description_: Supply-Voltage Supervisors, 2.53V, PDIP-8/SOIC-8; ki_keywords: voltage supervisor
pins: 1 REF, 2 ~{{RESIN}}, 3 CT, 4 GND, 5 ~{{RESET}}, 6 RESET, 7 SENSE, 8 VCC

## TL7702B
designator *  value TL7702B  Reference: U
Supply-Voltage Supervisors, 2.53V, PDIP-8/SOIC-8; ki_fp_filters: SOIC*3.9x4.9mm*P1.27mm* DIP*W7.62mm*; Datasheet: http://www.ti.com.cn/cn/lit/ds/symlink/tl7705b.pdf; Description_: Supply-Voltage Supervisors, 2.53V, PDIP-8/SOIC-8; ki_keywords: voltage supervisor
pins: 1 REF, 2 ~{{RESIN}}, 3 CT, 4 GND, 5 ~{{RESET}}, 6 RESET, 7 SENSE, 8 VCC

## TL7705A
designator *  value TL7705A  Reference: U
Supply-Voltage Supervisors, 4.55V, PDIP-8/SOIC-8; ki_fp_filters: SOIC*3.9x4.9mm*P1.27mm* DIP*W7.62mm*; Datasheet: http://www.ti.com.cn/cn/lit/ds/symlink/tl7705a.pdf; Description_: Supply-Voltage Supervisors, 4.55V, PDIP-8/SOIC-8; ki_keywords: voltage supervisor
pins: 1 REF, 2 ~{{RESIN}}, 3 CT, 4 GND, 5 ~{{RESET}}, 6 RESET, 7 SENSE, 8 VCC

## TL7705AxPS
designator *  value TL7705AxPS  Reference: U
Supply-Voltage Supervisors, 4.55V, SOIC-8 (208 mil); ki_fp_filters: *SOIC*5.3x6.2mm*P1.27mm*; Footprint: Package_SO:SOIC-8_5.3x6.2mm_P1.27mm; Datasheet: http://www.ti.com.cn/cn/lit/ds/symlink/tl7705a.pdf; Description_: Supply-Voltage Supervisors, 4.55V, SOIC-8 (208 mil); ki_keywords: voltage supervisor
pins: 1 REF, 2 ~{{RESIN}}, 3 CT, 4 GND, 5 ~{{RESET}}, 6 RESET, 7 SENSE, 8 VCC

## TL7705B
designator *  value TL7705B  Reference: U
Supply-Voltage Supervisors, 4.55V, PDIP-8/SOIC-8; ki_fp_filters: SOIC*3.9x4.9mm*P1.27mm* DIP*W7.62mm*; Datasheet: http://www.ti.com.cn/cn/lit/ds/symlink/tl7705b.pdf; Description_: Supply-Voltage Supervisors, 4.55V, PDIP-8/SOIC-8; ki_keywords: voltage supervisor
pins: 1 REF, 2 ~{{RESIN}}, 3 CT, 4 GND, 5 ~{{RESET}}, 6 RESET, 7 SENSE, 8 VCC

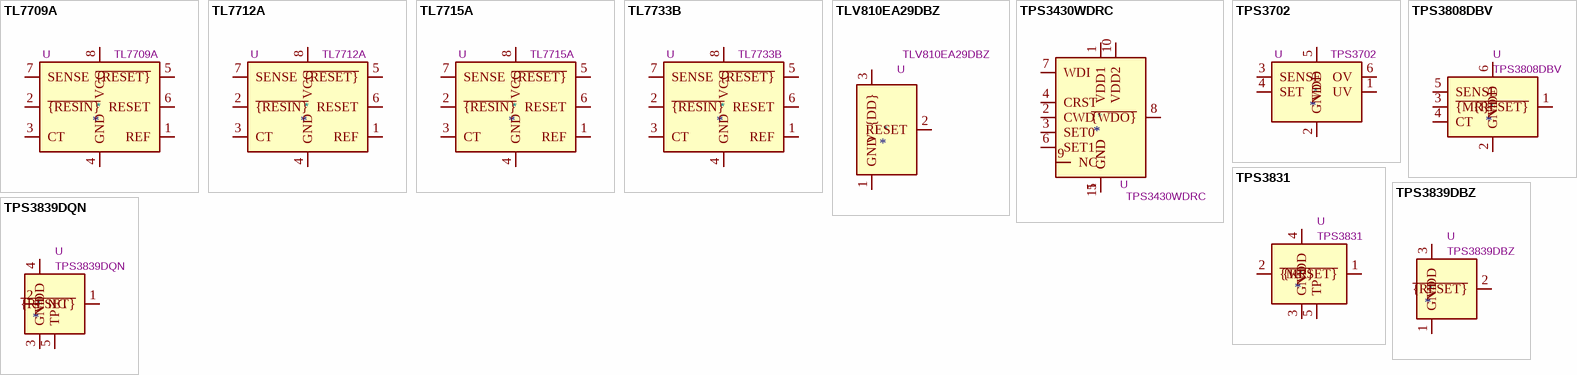
[diagram p2: symbols TL7709A to TPS3839DQN]

## TL7709A
designator *  value TL7709A  Reference: U
Supply-Voltage Supervisors, 7.6V, PDIP-8/SOIC-8; ki_fp_filters: SOIC*3.9x4.9mm*P1.27mm* DIP*W7.62mm*; Datasheet: http://www.ti.com.cn/cn/lit/ds/symlink/tl7705a.pdf; Description_: Supply-Voltage Supervisors, 7.6V, PDIP-8/SOIC-8; ki_keywords: voltage supervisor
pins: 1 REF, 2 ~{{RESIN}}, 3 CT, 4 GND, 5 ~{{RESET}}, 6 RESET, 7 SENSE, 8 VCC

## TL7712A
designator *  value TL7712A  Reference: U
Supply-Voltage Supervisors, 10.8V, PDIP-8/SOIC-8; ki_fp_filters: SOIC*3.9x4.9mm*P1.27mm* DIP*W7.62mm*; Datasheet: http://www.ti.com.cn/cn/lit/ds/symlink/tl7705a.pdf; Description_: Supply-Voltage Supervisors, 10.8V, PDIP-8/SOIC-8; ki_keywords: voltage supervisor
pins: 1 REF, 2 ~{{RESIN}}, 3 CT, 4 GND, 5 ~{{RESET}}, 6 RESET, 7 SENSE, 8 VCC

## TL7715A
designator *  value TL7715A  Reference: U
Supply-Voltage Supervisors, 13.5V, PDIP-8/SOIC-8; ki_fp_filters: SOIC*3.9x4.9mm*P1.27mm* DIP*W7.62mm*; Datasheet: http://www.ti.com.cn/cn/lit/ds/symlink/tl7705a.pdf; Description_: Supply-Voltage Supervisors, 13.5V, PDIP-8/SOIC-8; ki_keywords: voltage supervisor
pins: 1 REF, 2 ~{{RESIN}}, 3 CT, 4 GND, 5 ~{{RESET}}, 6 RESET, 7 SENSE, 8 VCC

## TL7733B
designator *  value TL7733B  Reference: U
Supply-Voltage Supervisors, 3.08V, PDIP-8/SOIC-8; ki_fp_filters: SOIC*3.9x4.9mm*P1.27mm* DIP*W7.62mm*; Datasheet: http://www.ti.com.cn/cn/lit/ds/symlink/tl7705b.pdf; Description_: Supply-Voltage Supervisors, 3.08V, PDIP-8/SOIC-8; ki_keywords: voltage supervisor
pins: 1 REF, 2 ~{{RESIN}}, 3 CT, 4 GND, 5 ~{{RESET}}, 6 RESET, 7 SENSE, 8 VCC

## TLV810EA29DBZ
designator *  value TLV810EA29DBZ  Reference: U
push-pull, active-high, 200mS reset delay, 2.93V threshold voltage, SOT-23; ki_keywords: voltage supervisor low power small size; ki_fp_filters: SOT?23*; Footprint: Package_TO_SOT_SMD:SOT-23; Datasheet: https://www.ti.com/lit/ds/symlink/tlv803e.pdf; Description_: push-pull, active-high, 200mS reset delay, 2.93V threshold voltage, SOT-23
pins: 1 GND, 2 RESET, 3 V_{DD}

## TPS3430WDRC
designator *  value TPS3430WDRC  Reference: U
Window watchdog timer with programmable reset delay; ki_keywords: watchdog supervisor; ki_fp_filters: *VSON*1EP*3x3mm*P0.5mm*; Footprint: Package_SON:VSON-10-1EP_3x3mm_P0.5mm_EP1.65x2.4mm; Datasheet: https://www.ti.com/lit/gpn/TPS3430; Description_: Window watchdog timer with programmable reset delay
pins: 1 VDD1, 2 CWD, 3 SET0, 4 CRST, 5 GND, 6 SET1, 7 WDI, 8 ~{{WDO}}, 9 NC, 10 VDD2, 11 GND

## TPS3702
designator *  value TPS3702  Reference: U
High-Accuracy, Overvoltage and Undervoltage Monitor, SOT-23-6; ki_keywords: protection overvoltage unvervoltage monitor; ki_fp_filters: SOT?23*; Footprint: Package_TO_SOT_SMD:SOT-23-6; Datasheet: http://www.ti.com/lit/ds/symlink/tps3702.pdf; Description_: High-Accuracy, Overvoltage and Undervoltage Monitor, SOT-23-6
pins: 1 UV, 2 GND, 3 SENSE, 4 SET, 5 VDD, 6 OV

## TPS3808DBV
designator *  value TPS3808DBV  Reference: U
Low-Quiescent-Current, Programmable-Delay Supervisory Circuit, SOT-23-6; ki_keywords: supply voltage supervisor; ki_fp_filters: SOT?23*; Footprint: Package_TO_SOT_SMD:SOT-23-6; Datasheet: http://www.ti.com/lit/ds/symlink/tps3808.pdf; Description_: Low-Quiescent-Current, Programmable-Delay Supervisory Circuit, SOT-23-6
pins: 1 ~{{RESET}}, 2 GND, 3 ~{{MR}}, 4 CT, 5 SENSE, 6 VDD

## TPS3831
designator *  value TPS3831  Reference: U
150-nA, Ultralow Power, Supply Voltage Monitor, X2SON-4; ki_keywords: supply voltage supervisor; ki_fp_filters: Texas*X2SON*1x1mm*P0.65mm*; Footprint: Package_SON:Texas_X2SON-4_1x1mm_P0.65mm; Datasheet: http://www.ti.com/lit/ds/sbvs193d/sbvs193d.pdf; Description_: 150-nA, Ultralow Power, Supply Voltage Monitor, X2SON-4
pins: 1 ~{{RESET}}, 2 ~{{MR}}, 3 GND, 4 VDD, 5 TP

## TPS3839DBZ
designator *  value TPS3839DBZ  Reference: U
150-nA, Ultralow Power, Supply Voltage Monitor, SOT-23; ki_keywords: supply voltage supervisor; ki_fp_filters: SOT?23*; Footprint: Package_TO_SOT_SMD:SOT-23; Datasheet: http://www.ti.com/lit/ds/sbvs193d/sbvs193d.pdf; Description_: 150-nA, Ultralow Power, Supply Voltage Monitor, SOT-23
pins: 1 GND, 2 ~{{RESET}}, 3 VDD

## TPS3839DQN
designator *  value TPS3839DQN  Reference: U
150-nA, Ultralow Power, Supply Voltage Monitor, X2SON-4; ki_keywords: supply voltage supervisor; ki_fp_filters: Texas*X2SON*1x1mm*P0.65mm*; Footprint: Package_SON:Texas_X2SON-4_1x1mm_P0.65mm; Datasheet: http://www.ti.com/lit/ds/sbvs193d/sbvs193d.pdf; Description_: 150-nA, Ultralow Power, Supply Voltage Monitor, X2SON-4
pins: 1 ~{{RESET}}, 2 NC, 3 GND, 4 VDD, 5 TP